# Altium schematic symbol library Kilian_UCC_Library.SchLib: 202 symbols (part 2 of 2)
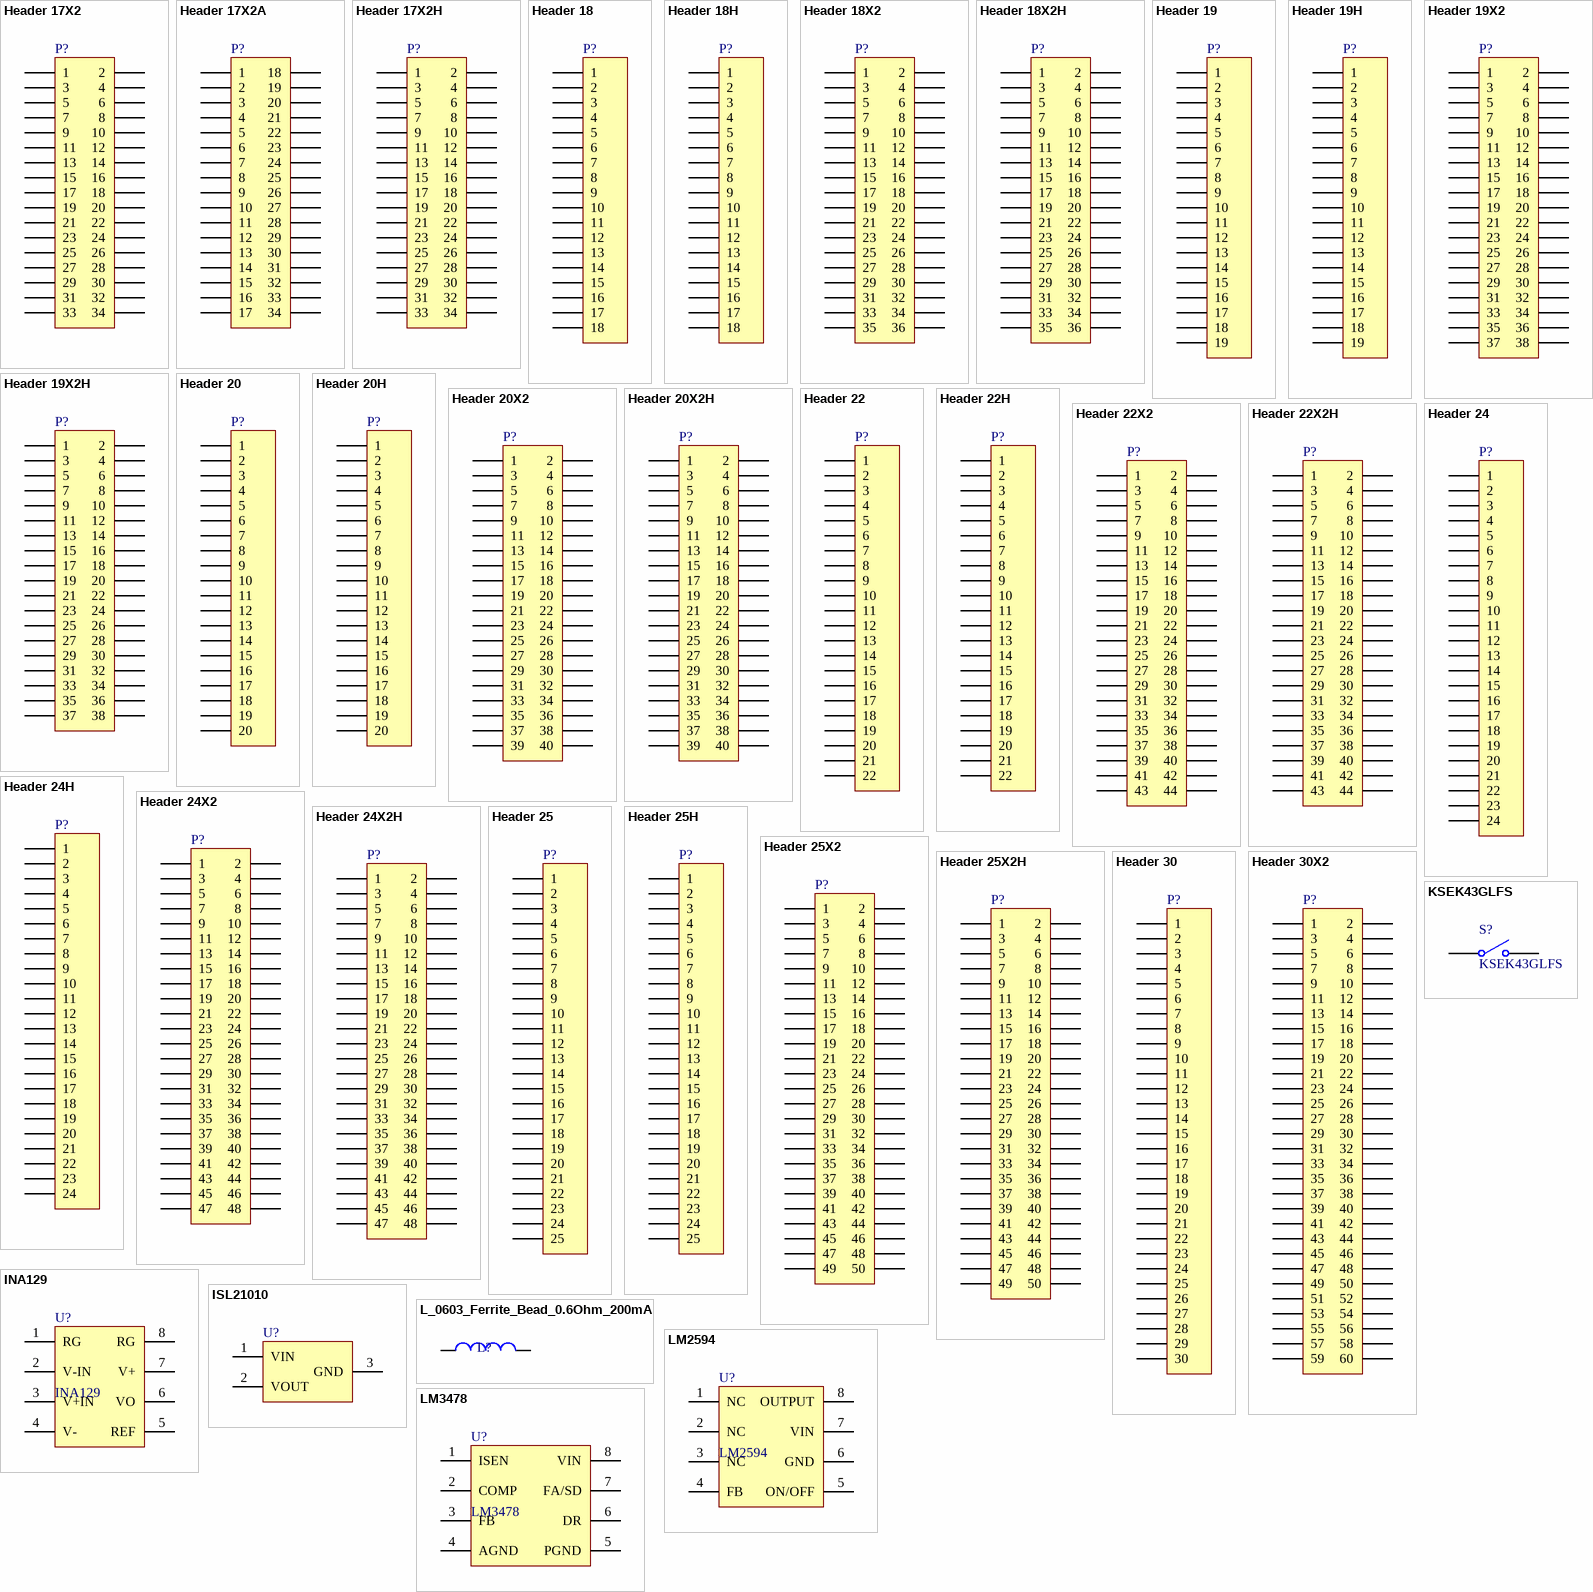
[diagram p6: symbols Header 17X2 to LM3478]

## Header 22X2H
designator P?
Header, 22-Pin, Dual row, Right Angle; LatestRevisionDate: 17-Jul-2002; LatestRevisionNote: Re-released for DXP Platform.; Publisher: Altium Limited
footprint HDR2X22H (Connector; Header; 22x2 Position; Right Angle)
signal-integrity model Connector
pins: 1, 2, 3, 4, 5, 6, 7, 8, 9, 10, 11, 12, 13, 14, 15, 16, 17, 18, 19, 20, 21, 22, 23, 24, 25, 26, 27, 28, 29, 30, 31, 32, 33, 34, 35, 36, 37, 38, 39, 40, 41, 42, 43, 44

## Header 24
designator P?
Header, 24-Pin; LatestRevisionDate: 17-Jul-2002; LatestRevisionNote: Re-released for DXP Platform.; Publisher: Altium Limited
footprint HDR1X24 (Connector; Header; 24 Position)
signal-integrity model Connector
pins: 1, 2, 3, 4, 5, 6, 7, 8, 9, 10, 11, 12, 13, 14, 15, 16, 17, 18, 19, 20, 21, 22, 23, 24

## Header 24H
designator P?
Header, 24-Pin, Right Angle; LatestRevisionDate: 17-Jul-2002; LatestRevisionNote: Re-released for DXP Platform.; Publisher: Altium Limited
footprint HDR1X24H (Connector; Header; 24 Position; Right Angle)
signal-integrity model Connector
pins: 1, 2, 3, 4, 5, 6, 7, 8, 9, 10, 11, 12, 13, 14, 15, 16, 17, 18, 19, 20, 21, 22, 23, 24

## Header 24X2
designator P?
Header, 24-Pin, Dual row; LatestRevisionDate: 17-Jul-2002; LatestRevisionNote: Re-released for DXP Platform.; Publisher: Altium Limited
footprint HDR2X24 (Connector; Header; 24x2 Position)
signal-integrity model Connector
pins: 1, 2, 3, 4, 5, 6, 7, 8, 9, 10, 11, 12, 13, 14, 15, 16, 17, 18, 19, 20, 21, 22, 23, 24, 25, 26, 27, 28, 29, 30, 31, 32, 33, 34, 35, 36, 37, 38, 39, 40, 41, 42, 43, 44, 45, 46, 47, 48

## Header 24X2H
designator P?
Header, 24-Pin, Dual row, Right Angle; LatestRevisionDate: 17-Jul-2002; LatestRevisionNote: Re-released for DXP Platform.; Publisher: Altium Limited
footprint HDR2X24H (Connector; Header; 24x2 Position; Right Angle)
signal-integrity model Connector
pins: 1, 2, 3, 4, 5, 6, 7, 8, 9, 10, 11, 12, 13, 14, 15, 16, 17, 18, 19, 20, 21, 22, 23, 24, 25, 26, 27, 28, 29, 30, 31, 32, 33, 34, 35, 36, 37, 38, 39, 40, 41, 42, 43, 44, 45, 46, 47, 48

## Header 25
designator P?
Header, 25-Pin; LatestRevisionDate: 17-Jul-2002; LatestRevisionNote: Re-released for DXP Platform.; Publisher: Altium Limited
footprint HDR1X25 (Connector; Header; 25 Position)
signal-integrity model Connector
pins: 1, 2, 3, 4, 5, 6, 7, 8, 9, 10, 11, 12, 13, 14, 15, 16, 17, 18, 19, 20, 21, 22, 23, 24, 25

## Header 25H
designator P?
Header, 25-Pin, Right Angle; LatestRevisionDate: 17-Jul-2002; LatestRevisionNote: Re-released for DXP Platform.; Publisher: Altium Limited
footprint HDR1X25H (Connector; Header; 25 Position; Right Angle)
signal-integrity model Connector
pins: 1, 2, 3, 4, 5, 6, 7, 8, 9, 10, 11, 12, 13, 14, 15, 16, 17, 18, 19, 20, 21, 22, 23, 24, 25

## Header 25X2
designator P?
Header, 25-Pin, Dual row; LatestRevisionDate: 17-Jul-2002; LatestRevisionNote: Re-released for DXP Platform.; Publisher: Altium Limited
footprint HDR2X25 (Connector; Header; 25x2 Position)
signal-integrity model Connector
pins: 1, 2, 3, 4, 5, 6, 7, 8, 9, 10, 11, 12, 13, 14, 15, 16, 17, 18, 19, 20, 21, 22, 23, 24, 25, 26, 27, 28, 29, 30, 31, 32, 33, 34, 35, 36, 37, 38, 39, 40, 41, 42, 43, 44, 45, 46, 47, 48, 49, 50

## Header 25X2H
designator P?
Header, 25-Pin, Dual row, Right Angle; LatestRevisionDate: 17-Jul-2002; LatestRevisionNote: Re-released for DXP Platform.; Publisher: Altium Limited
footprint HDR2X25H (Connector; Header; 25x2 Position; Right Angle)
signal-integrity model Connector
pins: 1, 2, 3, 4, 5, 6, 7, 8, 9, 10, 11, 12, 13, 14, 15, 16, 17, 18, 19, 20, 21, 22, 23, 24, 25, 26, 27, 28, 29, 30, 31, 32, 33, 34, 35, 36, 37, 38, 39, 40, 41, 42, 43, 44, 45, 46, 47, 48, 49, 50

## Header 30
designator P?
Header, 30-Pin; LatestRevisionDate: 17-Jul-2002; LatestRevisionNote: Re-released for DXP Platform.; Publisher: Altium Limited
footprint HDR1X30 (Connector; Header; 30 Position)
signal-integrity model Connector
pins: 1, 2, 3, 4, 5, 6, 7, 8, 9, 10, 11, 12, 13, 14, 15, 16, 17, 18, 19, 20, 21, 22, 23, 24, 25, 26, 27, 28, 29, 30

## Header 30X2
designator P?
Header, 30-Pin, Dual row; LatestRevisionDate: 17-Jul-2002; LatestRevisionNote: Re-released for DXP Platform.; Publisher: Altium Limited
footprint HDR2X30 (Connector; Header; 30x2 Position)
signal-integrity model Connector
pins: 1, 2, 3, 4, 5, 6, 7, 8, 9, 10, 11, 12, 13, 14, 15, 16, 17, 18, 19, 20, 21, 22, 23, 24, 25, 26, 27, 28, 29, 30, 31, 32, 33, 34, 35, 36, 37, 38, 39, 40, 41, 42, 43, 44, 45, 46, 47, 48, 49, 50, 51, 52, 53, 54, 55, 56, 57, 58, 59, 60

## INA129
designator U?
TEXAS INSTRUMENTS  INA129UAE4  Instrument Amplifier, 3 Amplifier, 125 µV, 4 V/µs, 1.3 MHz, ± 2.25V to ± 18V, SOIC; Unit Cost: 7.94; ComponentLinkURL1: http://ie.farnell.com/texas-instruments/ina129uae4/ic-amp-instrumentation-soic8-129/dp/1206897; Manufacturer Part Number: INA129UAE4; Supplier Part Number 1: 1206897; Supplier 1: Farnell; Supplier 2: *; Manufacturer: TEXAS INSTRUMENTS
footprint SO-8 (SOIC, 8-Leads, Body 4.9x3.9mm, Pitch 1.27mm, IPC Medium Density)
pins: 1 RG, 2 V-IN, 3 V+IN, 4 V-, 5 REF, 6 VO, 7 V+, 8 RG

## ISL21010
designator U?  (value not drawn)
INTERSIL  ISL21010CFH330Z-TK  Voltage Reference, Precision Micropower, Series - Fixed, ISL21010 Series, 3V, SOT-23-3; Unit Cost: 1.79; ComponentLinkURL1: http://ie.farnell.com/intersil/isl21010cfh330z-tk/voltage-ref-series-3v-sot-23-3/dp/2112003; Manufacturer Part Number: ISL21010CFH330Z-TK; Supplier Part Number 1: 2112003; Supplier 1: Farnell; Supplier 2: *; Manufacturer: INTERSIL
footprint SOT-23 (SOT-23; 3 Leads; Body 3.0 x 2.5 mm, inc. leads (LxW max), Alternate Lead Configuration)
pins: 1 VIN, 2 VOUT, 3 GND

## KSEK43GLFS
designator S?
Single-Pole, Single-Throw Switch; Published: 24-Mar-1999; LatestRevisionDate: 17-Jul-2002; LatestRevisionNote: Re-released for DXP Platform.; PackageReference: SPST-2; Publisher: Altium Limited; PackageDescription: Switch; 2 Leads
footprint KSEK43GLFS
pins: 1 COMMON, 2 NO

## L_0603_Ferrite_Bead_0.6Ohm_200mA
designator L?, comment Ferrite Bead  (value not drawn)
WURTH ELEKTRONIK  74279266  FERRITE, BEAD, 0603, 0.6OHM, 0.2A; Unit Cost: 0.193; Supplier 1: Farnell; Supplier Part Number 1: 1635693; ComponentLinkURL1: http://ie.farnell.com/wurth-elektronik/74279266/ferrite-bead-0603-0-6ohm-0-2a/dp/1635693; Manufacturer Part Number: 74279266; Value: Ferrite Bead; Supplier 2: *
footprint 0603 (Chip Inductor, Body 0.6x0.3mm, IPC High Density)
pins: 1, 2

## LM2594
designator U?
TEXAS INSTRUMENTS  LM2594M-3.3  Buck (Step Down) Switching Regulator, Fixed, 4.5V-40V In, 3.3V And 0.5A Out, SOIC-8; Unit Cost: 2.52; ComponentLinkURL1: http://ie.farnell.com/texas-instruments/lm2594m-3-3/switching-reg-0-5a-3-3v-smd-2594/dp/1215200; Manufacturer Part Number: LM2594M-3.3; Supplier 1: Farnell; Supplier 2: *; Manufacturer: TEXAS INSTRUMENTS; Value: 3.3V; Supplier Part Number 1: 1215200
footprint D008_M (8-Pin Small Outline Integrated Circuit 1.27 mm Pitch, IPC Low Density)
pins: 1 NC, 2 NC, 3 NC, 4 FB, 5 ON/OFF, 6 GND, 7 VIN, 8 OUTPUT

## LM3478
designator U?
LM3478x/-Q1 High-Efficiency Low-Side N-Channel Controller for Switching Regulator; Manufacturer: Texas Instruments; Manufacturer Part Number: LM3478MA/NOPB; Unit Cost: 2.61; Supplier 1: Farnell; Supplier Part Number 1: 2323702; ComponentLinkURL1: http://ie.farnell.com/texas-instruments/lm3478ma-nopb/pwm-controller-current-mode-soic/dp/2323702?selectedCategoryId=&exaMfpn=true&categoryId=&searchRef=SearchLookAhead&searchView=table&iscrfnonsku=false
footprint D008_M (8-Pin Small Outline Integrated Circuit 1.27 mm Pitch, IPC Low Density)
pins: 1 ISEN, 2 COMP, 3 FB, 4 AGND, 5 PGND, 6 DR, 7 FA/SD, 8 VIN

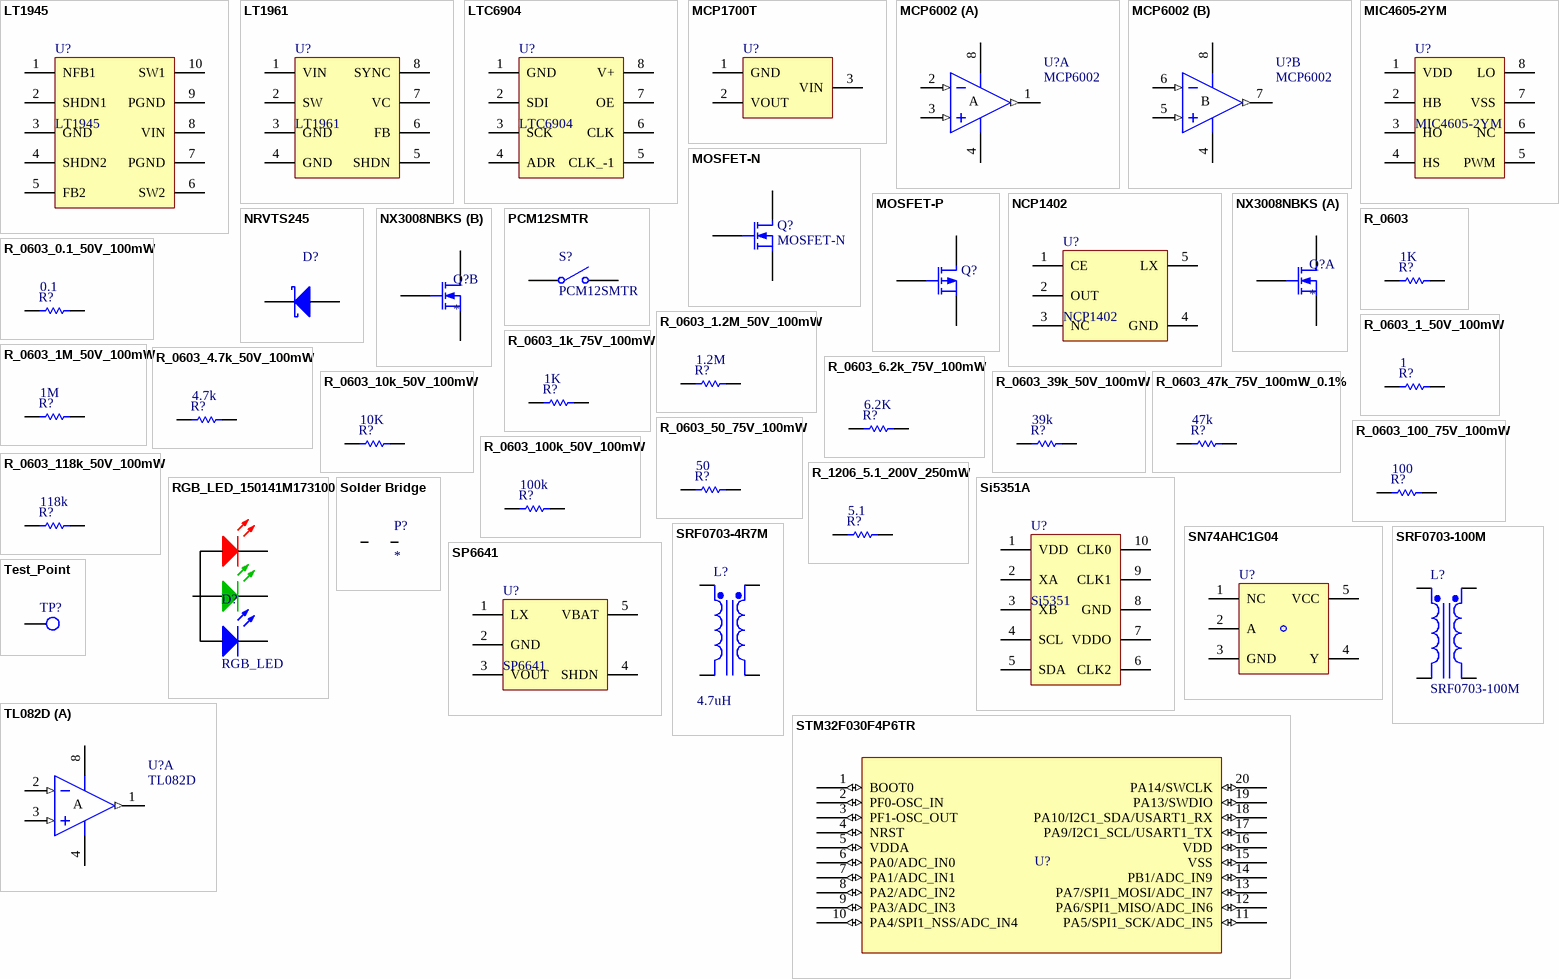
[diagram p4: symbols LT1945 to TL082D]

## LT1945
designator U?
Dual Rail DC DC - LINEAR TECHNOLOGY  LT1945EMS#PBF  IC, DC/DC CONV, SMD, MSOP10, 1945; Unit Cost: 4.07; ComponentLinkURL1: http://ie.farnell.com/linear-technology/lt1945ems-pbf/ic-dc-dc-conv-smd-msop10-1945/dp/1273495; Manufacturer Part Number: LT1945EMS#PBF; Supplier Part Number 1: 1273495; Supplier 1: Farnell; Supplier Part Number 2: *; Manufacturer: LINEAR TECHNOLOGY
footprint MS10 (Shrink Small Outline; 10 Leads; Body Width 3 mm; Pitch 0.5 mm)
pins: 1 NFB1, 2 SHDN1, 3 GND, 4 SHDN2, 5 FB2, 6 SW2, 7 PGND, 8 VIN, 9 PGND, 10 SW1

## LT1961
designator U?
1.5A, 1.25MHz Step-Up  Switching Regulator
simulation model BRIDGE (Spice Subcircuit)
footprint MSOP_8
pins: 1 VIN, 2 SW, 3 GND, 4 GND, 5 SHDN, 6 FB, 7 VC, 8 SYNC

## LTC6904
designator U?
LINEAR TECHNOLOGY  LTC6904CMS8#PBF  IC, OSCILLATOR, 1KHZ-68MHZ, 8MSOP; Unit Cost: 4; ComponentLinkURL1: http://ie.farnell.com/linear-technology/ltc6904cms8-pbf/ic-oscillator-1khz-68mhz-8msop/dp/1663750; Supplier 1: Farnell; Supplier Part Number 1: 1663750; Manufacturer: LINEAR TECHNOLOGY; Manufacturer Part Number: LTC6904CMS8#PBF
simulation model BRIDGE (Spice Subcircuit)
footprint MSOP_8
pins: 1 GND, 2 SDI, 3 SCK, 4 ADR, 5 CLK_-1, 6 CLK, 7 OE, 8 V+

## MCP1700T
designator U?  (value not drawn)
LDO Voltage Regulators 250mA Adj LDO 2%; Supplier 2: *
footprint SOT-23 (SOT-23; 3 Leads; Body 3.0 x 2.5 mm, inc. leads (LxW max), Alternate Lead Configuration)
pins: 1 GND, 2 VOUT, 3 VIN

## MCP6002
designator U?
MICROCHIP  MCP6002-I/SN  Operational Amplifier, Dual, AEC-Q100, 1 MHz, 2 Amplifier, 0.6 V/µs, 1.8V to 6V, SOIC, 8 Pins; Unit Cost: .414; Published: 16-Jan-2001; LatestRevisionDate: 13-Apr-2006; LatestRevisionNote: IPC-7351 Footprint Added.; DatasheetVersion: Feb-1999; PackageVersion: Jan-1998; PackageReference: D008; Publisher: Altium Limited; PackageDescription: 8-Pin Small Outline Integrated Circuit 1.27 mm Pitch; Code_IPC: SOIC127P600-8; ComponentLink1Description: Manufacturer Link; ComponentLink1URL: http://ie.farnell.com/microchip/mcp6002-i-sn/ic-op-amp-1-8v-1mhz-dual-soic8/dp/1292246; ComponentLink2Description: Datasheet; ComponentLink2URL: http://www-s.ti.com/sc/ds/tl082.pdf; Supplier 1: Farnell; Supplier Part Number 1: 1292246
footprint D008_M (SOIC, 8-Leads, Body 4.9x3.9mm, Pitch 1.27mm, IPC Low Density)
3D model D008 (8-Pin Small Outline Integrated Circuit 1.27 mm Pitch)
simulation model TL082 (SUBCKT)
pins on every part: 4 V- (power), 8 V+ (power)
part A pins: 1 OUT (out), 2 IN- (in), 3 IN+ (in)
part B pins: 5 IN+ (in), 6 IN- (in), 7 OUT (out)
part A text: A
part B text: B

## MIC4605-2YM
designator U?
Mosfet Driver; Manufacturer: MICROCHIP; Unit Cost: .702; Supplier 1: Farnell; Supplier Part Number 1: 2510169; Manufacturer Part Number: MIC4605-2YM; ComponentLinkURL1: http://ie.farnell.com/microchip/mic4605-2ym/driver-mosfet-5-5v-16v-soic-8/dp/2510169
simulation model BRIDGE (Spice Subcircuit)
footprint SO-8 - M (SOIC, 8-Leads, Body 4.9x3.9mm, Pitch 1.27mm, IPC Medium Density)
pins: 1 VDD, 2 HB, 3 HO, 4 HS, 5 PWM, 6 NC, 7 VSS, 8 LO

## MOSFET-N
designator Q?
N-Channel MOSFET; Published: 8-Jun-2000; LatestRevisionDate: 17-Jul-2002; LatestRevisionNote: Re-released for DXP Platform.; PackageVersion: 1995/1996; PackageReference: E3; Publisher: Altium Limited; PackageDescription: TO, Flat Index; 3 In-Line, Axial Leads; Body Dia. 4.6mm; Lead Dia. 0.5 mm (max)
footprint E3 (TO, Flat Index; 3 In-Line, Axial Leads; Body Dia. 4.6mm; Lead Dia. 0.5 mm (max))
simulation model NMOS (MOSFET-N)
pins: 1 D, 2 G, 3 S

## MOSFET-P
designator Q?
P-Channel MOSFET; Published: 8-Jun-2000; LatestRevisionDate: 17-Jul-2002; LatestRevisionNote: Re-released for DXP Platform.; PackageVersion: 1995/1996; PackageReference: E3; Publisher: Altium Limited; PackageDescription: TO, Flat Index; 3 In-Line, Axial Leads; Body Dia. 4.6mm; Lead Dia. 0.5 mm (max)
footprint E3 (TO, Flat Index; 3 In-Line, Axial Leads; Body Dia. 4.6mm; Lead Dia. 0.5 mm (max))
simulation model PMOS (MOSFET-P)
pins: 1 D, 2 G, 3 S

## NCP1402
designator U?
footprint SOT23-5
pins: 1 CE, 2 OUT, 3 NC, 4 GND, 5 LX

## NRVTS245
designator D?  (value not drawn)
ON SEMICONDUCTOR  NRVTS245ESFT1G  Schottky Rectifier, Single, 45 V, 2 A, SOD-123, 2 Pins, 650 mV; Unit Cost: 0.0894; Value: 650mV; ComponentLinkURL1: http://ie.farnell.com/on-semiconductor/nrvts245esft1g/diode-schottky-2a-45v-sod-123/dp/2473409?ost=2473409&selectedCategoryId=&categoryNameResp=All%2BCategories&searchView=table&iscrfnonsku=false; Manufacturer Part Number: NRVTS245ESFT1G; Supplier 1: Farnell; Supplier 2: *; Manufacturer: ON SEMICONDUCTOR; Supplier Part Number 1: 2473409
footprint SOD123
pins: 1, 2

## NX3008NBKS
designator Q?
footprint SOT363
part A pins: 1 S, 2 G, 6 D
part B pins: 3 D, 4 S, 5 G

## PCM12SMTR
designator S?
C & K COMPONENTS  PCM12SMTR  Slide Switch, SPDT, On-On, SMD, PCM Series, 300 mA; Published: 24-Mar-1999; LatestRevisionDate: 17-Jul-2002; LatestRevisionNote: Re-released for DXP Platform.; PackageReference: SPST-2; Publisher: Altium Limited; PackageDescription: Switch; 2 Leads; Supplier Part Number: 9575146
footprint PCM12SMTR
pins: 1 COMMON, 2 NO

## R_0603
designator R?  value 1K  (hidden comment: R_0603)
Resistor; Voltage Rating: *
simulation model RESISTOR (Resistor)
signal-integrity model Res
footprint 0603 (Chip Inductor, Body 0.6x0.3mm, IPC High Density)
pins: 1, 2

## R_0603_0.1_50V_100mW
designator R?  value 0.1  (hidden comment: R_0603_0.1_50V_100mW)
BOURNS  CRL0603-JW-R100ELF  SMD Chip Resistor, Thick Film, CRL Series, 0.1 ohm, 0603 [1608 Metric], 100 mW, ± 5%; Voltage Rating: 75V; Unit Cost: 0.0123; Supplier 1: Farnell; Supplier 2: Digikey; Supplier Part Number 1: 2328102; Supplier Part Number 2: *; ComponentLinkURL1: http://ie.farnell.com/bourns/crl0603-jw-r100elf/res-thick-film-0r1-5-0-1w-0603/dp/2328102; Manufacturer Part Number: CRL0603-JW-R100ELF; Manufacturer: BOURNS
simulation model RESISTOR (Resistor)
signal-integrity model Res
footprint 0603 (Chip Inductor, Body 0.6x0.3mm, IPC High Density)
pins: 1, 2

## R_0603_1.2M_50V_100mW
designator R?  value 1.2M  (hidden comment: R_0603_1.2M_50V_100mW)
Resistor; Manufacturer: PANASONIC ELECTRONIC COMPONENTS; Manufacturer Part Number: RC0603FR-071ML; Voltage Rating: 50V; Unit Cost: 0.0123; Tolerance: 1%; Supplier 1: Farnell; Supplier 2: Digikey; Supplier Part Number 1: 2059682; Supplier Part Number 2: *; ComponentLinkURL2: *; ComponentLinkURL1: http://ie.farnell.com/panasonic-electronic-components/erj3geyj125v/res-thick-film-1m2-5-0-1w-0603/dp/2059682
simulation model RESISTOR (Resistor)
signal-integrity model Res
footprint 0603 (Chip Inductor, Body 0.6x0.3mm, IPC High Density)
pins: 1, 2

## R_0603_1_50V_100mW
designator R?, comment 1
Resistor; Manufacturer Part Number: RC0603FR-071RL; Manufacturer: YAGEO; Voltage Rating: 50V; Unit Cost: 0.0136; Supplier 1: Farnell; Supplier 2: Digikey; Supplier Part Number 1: 9238123; Supplier Part Number 2: *; ComponentLinkURL1: http://ie.farnell.com/yageo-phycomp/rc0603fr-071rl/res-thick-film-1r-1-0-1w-0603/dp/9238123; Value: 1
simulation model RESISTOR (Resistor)
signal-integrity model Res
footprint 0603 (Chip Inductor, Body 0.6x0.3mm, IPC High Density)
pins: 1, 2

## R_0603_1k_75V_100mW
designator R?  value 1K  (hidden comment: R_0603_1k_75V_100mW)
Resistor; Manufacturer Part Number: ERJ3GEYJ102V; Manufacturer: PANASONIC ELECTRONIC COMPONENTS; Voltage Rating: 75V; Unit Cost: 0.0123; Supplier 1: Farnell; Supplier 2: Digikey; Supplier Part Number 1: 2059601; Supplier Part Number 2: *; ComponentLinkURL1: http://ie.farnell.com/panasonic-electronic-components/erj3geyj102v/res-thick-film-1k-5-0-1w-0603/dp/2059601
simulation model RESISTOR (Resistor)
signal-integrity model Res
footprint 0603 (Chip Inductor, Body 0.6x0.3mm, IPC High Density)
pins: 1, 2

## R_0603_1M_50V_100mW
designator R?  value 1M  (hidden comment: R_0603_1M_50V_100mW)
Resistor; Manufacturer: YAGEO; Manufacturer Part Number: RC0603FR-071ML; Voltage Rating: 50V; Unit Cost: 0.006; Tolerance: 1%; Supplier 1: Farnell; Supplier 2: Digikey; Supplier Part Number 1: 9238840; Supplier Part Number 2: *; ComponentLinkURL2: *; ComponentLinkURL1: http://ie.farnell.com/yageo-phycomp/rc0603fr-071ml/res-thick-film-1m-1-0-1w-0603/dp/9238840
simulation model RESISTOR (Resistor)
signal-integrity model Res
footprint 0603 (Chip Inductor, Body 0.6x0.3mm, IPC High Density)
pins: 1, 2

## R_0603_4.7k_50V_100mW
designator R?, comment 4.7k
YAGEO (PHYCOMP)  RC0603FR-074K7L.  SMD Chip Resistor, Thick Film, RC Series, 4.7 kohm, 50 V, 0603 [1608 Metric], 100 mW, ± 1%; Voltage Rating: 50V; Unit Cost: 0.0066; Supplier 1: Farnell; Supplier 2: Digikey; Supplier Part Number 1: 9238565; Supplier Part Number 2: *; ComponentLinkURL2: *; ComponentLinkURL1: http://ie.farnell.com/yageo-phycomp/rc0603fr-074k7l/res-thick-film-4k7-1-0-1w-0603/dp/9238565; Manufacturer: YAGEO (PHYCOMP); Manufacturer Part Number: RC0603FR-074K7L; Value: 4.7k
simulation model RESISTOR (Resistor)
signal-integrity model Res
footprint 0603 (Chip Inductor, Body 0.6x0.3mm, IPC High Density)
pins: 1, 2

## R_0603_6.2k_75V_100mW
designator R?  value 6.2K  (hidden comment: R_0603_6.2k_75V_100mW)
Resistor; Manufacturer Part Number: WR06X6201FTL; Manufacturer: WALSIN; Voltage Rating: 75V; Unit Cost: 0.0109; Supplier 1: Farnell; Supplier 2: Digikey; Supplier Part Number 1: 2502475; Supplier Part Number 2: *; ComponentLinkURL1: http://ie.farnell.com/walsin/wr06x6201ftl/resistor-thick-film-6k2-1-75v/dp/2502475
simulation model RESISTOR (Resistor)
signal-integrity model Res
footprint 0603 (Chip Inductor, Body 0.6x0.3mm, IPC High Density)
pins: 1, 2

## R_0603_10k_50V_100mW
designator R?  value 10K  (hidden comment: R_0603_10k_50V_100mW)
Resistor; Manufacturer: YAGEO; Manufacturer Part Number: RC0603FR-0710KL; Voltage Rating: 50V; Unit Cost: 0.006; Supplier 1: Farnell; Supplier 2: Digikey; Supplier Part Number 1: 9238603; Supplier Part Number 2: *; ComponentLinkURL2: *; ComponentLinkURL1: http://ie.farnell.com/yageo-phycomp/rc0603fr-0710kl/res-thick-film-10k-1-0-1w-0603/dp/9238603
simulation model RESISTOR (Resistor)
signal-integrity model Res
footprint 0603 (Chip Inductor, Body 0.6x0.3mm, IPC High Density)
pins: 1, 2

## R_0603_39k_50V_100mW
designator R?, comment 39k
YAGEO (PHYCOMP)  RC0603FR-074K7L.  YAGEO (PHYCOMP)  RC0603JR-0739KL  SMD Chip Resistor, Thick Film, RC Series, 39 kohm, 50 V, 0603 [1608 Metric], 100 mW, ± 5%; Voltage Rating: 50V; Unit Cost: 0.0066; Supplier 1: Farnell; Supplier 2: Digikey; Supplier Part Number 1: 9233571; Supplier Part Number 2: *; ComponentLinkURL2: *; ComponentLinkURL1: http://ie.farnell.com/yageo-phycomp/rc0603fr-074k7l/res-thick-film-4k7-1-0-1w-0603/dp/9238565; Manufacturer: YAGEO (PHYCOMP); Manufacturer Part Number: RC0603JR-0739KL; Value: 39k
simulation model RESISTOR (Resistor)
signal-integrity model Res
footprint 0603 (Chip Inductor, Body 0.6x0.3mm, IPC High Density)
pins: 1, 2

## R_0603_47k_75V_100mW_0.1%
designator R?, comment 47k
Resistor; Manufacturer: PANASONIC ELECTRONIC COMPONENTS; Manufacturer Part Number: ERA3AEB473V; Voltage Rating: 75V; Unit Cost: 0.225; Supplier 1: Farnell; Supplier 2: Digikey; Supplier Part Number 1: 1577628; Supplier Part Number 2: *; ComponentLinkURL2: *; ComponentLinkURL1: http://ie.farnell.com/panasonic-electronic-components/era3aeb473v/res-thin-film-47k-0-1-0-1w-0603/dp/1577628; Value: 47k
simulation model RESISTOR (Resistor)
signal-integrity model Res
footprint 0603 (Chip Inductor, Body 0.6x0.3mm, IPC High Density)
pins: 1, 2

## R_0603_50_75V_100mW
designator R?, comment 50
Resistor; Manufacturer Part Number: CRCW060350R0FKEA; Manufacturer: VISHAY; Voltage Rating: 50V; Unit Cost: 0.02; Supplier 1: Farnell; Supplier 2: Digikey; Supplier Part Number 1: 2112878; Supplier Part Number 2: *; ComponentLinkURL1: http://ie.farnell.com/vishay/crcw060350r0fkea/res-thick-film-50r-1-0-1w-0603/dp/2112878; Value: 50
simulation model RESISTOR (Resistor)
signal-integrity model Res
footprint 0603 (Chip Inductor, Body 0.6x0.3mm, IPC High Density)
pins: 1, 2

## R_0603_100_75V_100mW
designator R?  value 100  (hidden comment: R_0603_100_75V_100mW)
Resistor; Manufacturer Part Number: WR06X1000FTL; Manufacturer: WALSIN; Voltage Rating: 75V; Unit Cost: 0.0112; Supplier 1: Farnell; Supplier 2: Digikey; Supplier Part Number 1: 2059601; Supplier Part Number 2: *; ComponentLinkURL1: http://ie.farnell.com/walsin/wr06x1000ftl/res-thick-film-100r-1-75v-0603/dp/2502395
simulation model RESISTOR (Resistor)
signal-integrity model Res
footprint 0603 (Chip Inductor, Body 0.6x0.3mm, IPC High Density)
pins: 1, 2

## R_0603_100k_50V_100mW
designator R?  value 100k  (hidden comment: R_0603_100k_50V_100mW)
Resistor; Manufacturer: YAGEO; Manufacturer Part Number: RC0603FR-13100KL; Voltage Rating: 50V; Unit Cost: 0.0107; Tolerance: 1%; Supplier 1: Farnell; Supplier 2: Digikey; Supplier Part Number 1: 2309107; Supplier Part Number 2: *; ComponentLinkURL2: *; ComponentLinkURL1: http://ie.farnell.com/yageo/rc0603fr-13100kl/res-thick-film-100k-1-0-1w-0603/dp/2309107
simulation model RESISTOR (Resistor)
signal-integrity model Res
footprint 0603 (Chip Inductor, Body 0.6x0.3mm, IPC High Density)
pins: 1, 2

## R_0603_118k_50V_100mW
designator R?  value 118k  (hidden comment: R_0603_118k_50V_100mW)
Resistor; Manufacturer: TE CONNECTIVITY; Manufacturer Part Number: CPF0603F118KC1; Voltage Rating: 50V; Unit Cost: 0.09; Tolerance: 1%; Supplier 1: Farnell; Supplier 2: Digikey; Supplier Part Number 1: 1527698; Supplier Part Number 2: *; ComponentLinkURL2: *; ComponentLinkURL1: http://ie.farnell.com/te-connectivity-neohm/cpf0603f118kc1/res-thin-film-118k-1-0-063w-0603/dp/1527698
simulation model RESISTOR (Resistor)
signal-integrity model Res
footprint 0603 (Chip Inductor, Body 0.6x0.3mm, IPC High Density)
pins: 1, 2

## R_1206_5.1_200V_250mW
designator R?  value 5.1  (hidden comment: R_1206_5.1_200V_250mW)
WALSIN  WR12W5R10FTL  SMD Chip Resistor, WR12 Series, 5.1 ohm, 200 V, 1206 [3216 Metric], 250 mW, ± 1%; Voltage Rating: 200V; Unit Cost: 0.0418; Supplier 1: Farnell; Supplier 2: Digikey; Supplier Part Number 1: 2502654; Supplier Part Number 2: *; ComponentLinkURL2: *; ComponentLinkURL1: http://ie.farnell.com/walsin/wr12w5r10ftl/res-thick-film-5r1-1-200v-1206/dp/2502654; Manufacturer: WALSIN; Manufacturer Part Number: WR12W5R10FTL; Tolerance: 1%
simulation model RESISTOR (Resistor)
signal-integrity model Res
footprint C1206 (Chip Capacitor, Body 3.2x1.6mm, IPC High Density)
pins: 1, 2

## RGB_LED_150141M173100
designator D?, comment RGB_LED
RGB_LED_150141M173100; Published: 8-Jun-2000; LatestRevisionDate: 08-Jul-2005; LatestRevisionNote: Mech Layer 1 removed.; PackageReference: LED-0; Publisher: Altium Limited; PackageDescription: LED; 2 Leads
simulation model LED0 (Diode)
footprint RGB_LED_150141M173100 (WURTH ELEKTRONIK  150141M173100  LED, RGB, Red, Green, Blue, SMD, 120 °, Round, R 30mA, G 30mA, B 30mA)
pins: 1, 2, 3, 4

## Si5351A
designator U?, comment Si5351
Waveform Generator; Manufacturer: Silicon Labs; Manufacturer Part Number: Si5351A-B02075-GT; Unit Cost: 1.04; Supplier 1: Mouser; Supplier Part Number 1: 634-SI5351A-B02075GT; Component:LinkURL1: http://www.mouser.ie/ProductDetail/Silicon-Labs/Si5351A-B02075-GT/?qs=sGAEpiMZZMvo8iywG0hSDcfSeZc2GQYNVu7VD318qLM%3d
simulation model BRIDGE (Spice Subcircuit)
footprint MSOP_10
pins: 1 VDD, 2 XA, 3 XB, 4 SCL, 5 SDA, 6 CLK2, 7 VDDO, 8 GND, 9 CLK1, 10 CLK0

## SN74AHC1G04
designator U?
TEXAS INSTRUMENTS  SN74AHC1G04QDBVRQ1  Inverter Gate, ACH Family, 1 Input, 1 Gate, 2V to 5.5V, SOT-23-5; Unit Cost: 0.255; Supplier 1: Farnell; Supplier Part Number 1: 2499872; Manufacturer: TEXAS INSTRUMENTS; Manufacturer Part Number: SN74AHC1G04QDBVRQ1; Value: *; ComponentLinkURL1: http://ie.farnell.com/texas-instruments/sn74ahc1g04qdbvrq1/inverter-single-sot-23-5/dp/2499872
simulation model BRIDGE (Spice Subcircuit)
footprint SC-70
pins: 1 NC, 2 A, 3 GND, 4 Y, 5 VCC

## Solder Bridge
designator P?
Solder Bridge
footprint Solder Bridge
pins: 1, 2

## SP6641
designator U?
footprint SOT23-5
pins: 1 LX, 2 GND, 3 VOUT, 4 SHDN, 5 VBAT

## SRF0703-4R7M
designator L?  value 4.7uH  (hidden comment: SRF0703-4R7M)
BOURNS  SRF0703-4R7M  INDUCTOR, POWER, DUAL, 4.7UH PARA.; Unit Cost: 0.837; Supplier 1: Farnell; Supplier Part Number 1: 1852815; Manufacturer: BOURNS; Manufacturer Part Number: SRF0703-4R7M; ComponentLinkURL1: http://ie.farnell.com/bourns/srf0703-4r7m/inductor-power-dual-4-7uh-para/dp/1852815
simulation model IDEALTRANS (Spice Subcircuit)
footprint SRF0703-100M (SRF0703 Series - Dual-Winding Shielded Power Inductors)
pins: 1 Pri+, 2 Sec+, 3 Pri-, 4 Sec-

## SRF0703-100M
designator L?
Published: 8-Jun-2000; LatestRevisionDate: 17-Jul-2002; LatestRevisionNote: Re-released for DXP Platform.; PackageReference: TRF_4; Publisher: Altium Limited; PackageDescription: Transformer; 4 Leads
simulation model IDEALTRANS (Spice Subcircuit)
footprint SRF0703-100M (SRF0703 Series - Dual-Winding Shielded Power Inductors)
pins: 1 Pri+, 2 Sec+, 3 Pri-, 4 Sec-

## STM32F030F4P6TR
designator U?
STMICROELECTRONICS  STM32F030F4P6TR  32 Bit Microcontroller, Value Line, ARM Cortex-M0, 48 MHz, 16 KB, 4 KB, 20 Pins, TSSOP; Unit Cost: 1.1; ComponentLinkURL1: http://ie.farnell.com/stmicroelectronics/stm32f030f4p6tr/mcu-32bit-cortex-m0-48mhz-tssop/dp/2432084; Supplier 1: Farnell; Supplier Part Number 1: 2432084; Manufacturer: ST MICROELECTRONICS; Manufacturer Part Number: STM32F030F4P6TR
footprint TSSOP20 (Shrink Small Outline; 20 Leads; Body Width 4.4 mm; Pitch 0.65 mm)
pins: 1 BOOT0 (io), 2 PF0-OSC_IN (io), 3 PF1-OSC_OUT (io), 4 NRST (io), 5 VDDA (io), 6 PA0/ADC_IN0 (io), 7 PA1/ADC_IN1 (io), 8 PA2/ADC_IN2 (io), 9 PA3/ADC_IN3 (io), 10 PA4/SPI1_NSS/ADC_IN4 (io), 11 PA5/SPI1_SCK/ADC_IN5 (io), 12 PA6/SPI1_MISO/ADC_IN6 (io), 13 PA7/SPI1_MOSI/ADC_IN7 (io), 14 PB1/ADC_IN9 (io), 15 VSS (io), 16 VDD (io), 17 PA9/I2C1_SCL/USART1_TX (io), 18 PA10/I2C1_SDA/USART1_RX (io), 19 PA13/SWDIO (io), 20 PA14/SWCLK (io)

## Test_Point
designator TP?, comment Test Point  (value not drawn)
HARWIN  S1751-46R  PCB Test Point, S1751 Series, Surface Mount, Copper Alloy, Tin Plated Contacts; Unit Cost: 0.129; ComponentLnkURL1: http://ie.farnell.com/harwin/s1751-46r/test-point-pcb-smt/dp/2293786?ost=2293786&selectedCategoryId=&categoryNameResp=All%2BCategories&searchView=table&iscrfnonsku=false; Manufacturer: HARWIN; Manufacturer Part Number: S1751-46R; Supplier 1: Farnell; Supplier Part Number 1: 2293786; Value: *
footprint Test_Point (Harwin Test Point)
pins: 1 TP

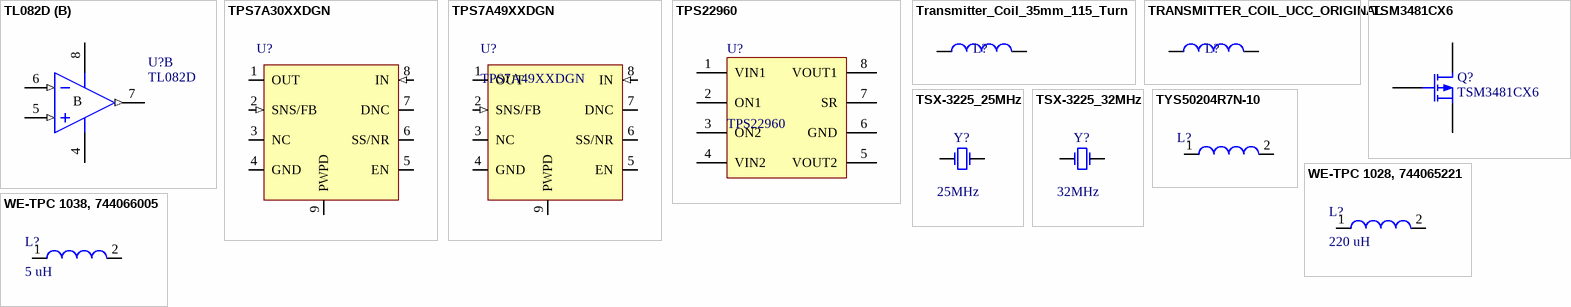
[diagram p5: symbols TL082D to WE-TPC 1038, 744066005]

## TL082D
designator U?
STMICROELECTRONICS  TL082IDT  Operational Amplifier, Dual, 4 MHz, 2 Amplifier, 16 V/µs, 6V to 36V, SOIC, 8 Pins; Unit Cost: 0.158; Published: 16-Jan-2001; LatestRevisionDate: 13-Apr-2006; LatestRevisionNote: IPC-7351 Footprint Added.; DatasheetVersion: Feb-1999; PackageVersion: Jan-1998; PackageReference: D008; Publisher: Altium Limited; PackageDescription: 8-Pin Small Outline Integrated Circuit 1.27 mm Pitch; Code_IPC: SOIC127P600-8; ComponentLink1Description: Manufacturer Link; ComponentLink1URL: http://ie.farnell.com/stmicroelectronics/tl082idt/op-amp-dual-4mhz-l-bias-8soic/dp/1750155; ComponentLink2Description: Datasheet; ComponentLink2URL: http://www-s.ti.com/sc/ds/tl082.pdf; Supplier 1: Farnell; Supplier Part Number 1: 1750155; Manufacturer: STMICROELECTRONICS; Manufacturer Part Number: TL082IDT
footprint D008_M (SOIC, 8-Leads, Body 4.9x3.9mm, Pitch 1.27mm, IPC Low Density)
3D model D008 (8-Pin Small Outline Integrated Circuit 1.27 mm Pitch)
simulation model TL082 (SUBCKT)
pins on every part: 4 V- (power), 8 V+ (power)
part A pins: 1 OUT (out), 2 IN- (in), 3 IN+ (in)
part B pins: 5 IN+ (in), 6 IN- (in), 7 OUT (out)
part A text: A
part B text: B

## TPS7A30XXDGN
designator U?  (value not drawn)
IC, -3V to -36V, -200mA, Ultralow Noise, High-PSRR LDO Negative Linear Regulator; Alternate Manufacturer: None; Manufacturer: TI; PartNumber: TPS7A3001DGNT; Area: 35250; Value: TPS7A3001DGNT; Unit Cost: 3.95; Alternate PartNumber: *; Altium Migration: *; ComponentHeight: 0.047; ComponentLink1Description: AEO Datasheet Link; ComponentLink1URL: http://ie.farnell.com/texas-instruments/tps7a3001dgnt/ic-ldo-neg-adj-200ma-8msop/dp/1855138; PackageReference: MSOP-8; SymbolVersion: 10/28/2009 14:24; Supplier 1: Farnell; Supplier Part Number 1: 1855138; Value: *
footprint DGN-8 (DGN PowerPAD)
pins: 1 OUT (power), 2 SNS/FB (in), 3 NC, 4 GND (power), 5 EN, 6 SS/NR, 7 DNC, 8 IN (in), 9 PWPD

## TPS7A49XXDGN
designator U?
IC, 3V to 36V, 150mA, Ultralow Noise, High-PSRR LDO Positive Linear Regulator; Alternate Manufacturer: None; Manufacturer: TI; PartNumber: TPS7A4901DGNT; Area: 35250; Value: TPS7A4901DGNT; Unit Cost: 2.64; Alternate PartNumber: *; Altium Migration: *; ComponentHeight: 0.047; ComponentLink1Description: AEO Datasheet Link; ComponentLink1URL: http://ie.farnell.com/texas-instruments/tps7a4901dgnt/ic-ldo-adj-150ma-8msop/dp/1841881; PackageReference: MSOP-8; SymbolVersion: 10/28/2009 14:24; Supplier 1: Farnell; Supplier Part Number 1: 1841881
footprint DGN-8 (DGN PowerPAD)
pins: 1 OUT (power), 2 SNS/FB (in), 3 NC, 4 GND (power), 5 EN, 6 SS/NR, 7 DNC, 8 IN (in), 9 PWPD

## TPS22960
designator U?
TEXAS INSTRUMENTS  TPS22960DCNR  Power Load Switch, Controlled Turn On, High Side, Active High, 2 Outputs, 5.5V, 0.5A, SOT-23-8; Unit Cost: .394; ComponentLinkURL1: http://ie.farnell.com/texas-instruments/tps22960dcnr/ic-power-switch-1-62v-in-8sot23/dp/1735581; Manufacturer Part Number: TPS22960DCNR; Supplier Part Number 1: 1735581; Supplier 1: Farnell; Supplier Part Number 2: *; Manufacturer: Texas Instruments
footprint SOT8
pins: 1 VIN1, 2 ON1, 3 ON2, 4 VIN2, 5 VOUT2, 6 GND, 7 SR, 8 VOUT1

## Transmitter_Coil_35mm_115_Turn
designator L?
Transmitter_Coil_35mm_115_Turn
footprint Transmitter_Coil_35mm_115_Turn
pins: 1, 2

## TRANSMITTER_COIL_UCC_ORIGINAL
designator L?
TRANSMITTER_COIL_UCC_ORIGINAL
footprint TRANSMITTER_COIL_UCC_ORIGINAL (Original 70mm coil, 0.5mm trace width, 0.25mm separation)
pins: 1, 2

## TSM3481CX6  
designator Q?, comment TSM3481CX6
TAIWAN SEMICONDUCTOR  TSM3481CX6  MOSFET Transistor, P Channel, -5.3 A, -30 V, 0.038 ohm, -10 V, -1 V; Unit Cost: 0.2; ComponentLinkURL1: http://ie.farnell.com/taiwan-semiconductor/tsm3481cx6/mosfet-p-ch-30v-5-3a-sot26/dp/1864596; Manufacturer Part Number: TSM3481CX6; Manufacturer: TAIWAN SEMICONDUCTOR; Supplier 1: Farnell; Supplier 2: *; Supplier Part Number 1: 1864596
simulation model PMOS (MOSFET-P)
footprint SOT-26; pin to pad 1>1+2+5+6 2>3 3>4
pins: 1 D, 2 G, 3 S

## TSX-3225_25MHz
designator Y?  value 25MHz  (hidden comment: TSX-3225_25MHz)
EPSON  X1E0000210132 TSX-3225 25 MHZ 9.0PF  CRYSTAL, TSX-3225, 25 MHZ, 9 PF; Unit Cost: 0.74; ComponentLinkURL1: http://ie.farnell.com/epson/x1e0000210132-tsx-3225-25-mhz-9-0pf/crystal-tsx-3225-25-mhz-9-pf/dp/1712843; Supplier 1: Farnell; Supplier Part Number 1: 1712843; Manufacturer: EPSON; Manufacturer Part Number: X1E0000210132 TSX-3225 25 MHZ 9.0PF
simulation model XTAL (Spice Subcircuit)
footprint TSX-3225 (MHz RANGE CRYSTAL UNIT  MINIATURE SIZE LOW PROFILE SMD)
pins: 1 OSC1, 3 OSC2

## TSX-3225_32MHz
designator Y?  value 32MHz  (hidden comment: TSX-3225_32MHz)
EPSON  X1E0000210162 TSX-3225 32 MHZ 9.0PF  CRYSTAL, TSX-3225, 32 MHZ, 9 PF; Unit Cost: 0.74; ComponentLinkURL1: http://ie.farnell.com/epson/x1e0000210162-tsx-3225-32-mhz-9-0pf/crystal-tsx-3225-32-mhz-9-pf/dp/1712845; Supplier 1: Farnell; Supplier Part Number 1: 1712845; Manufacturer: EPSON; Manufacturer Part Number: X1E0000210162
simulation model XTAL (Spice Subcircuit)
footprint TSX-3225 (MHz RANGE CRYSTAL UNIT  MINIATURE SIZE LOW PROFILE SMD)
pins: 1 OSC1, 3 OSC2

## TYS50204R7N-10
designator L?
LAIRD TECHNOLOGIES  TYS50204R7N-10  Surface Mount Power Inductor, TYS Series, 4.7 µH, ± 30%, Shielded, 0.057 ohm, 2.2 A; Manufacturer: Wurth Elektronik; L: 4.7u; IR: 4.9 A; Isat: 5.5 A; Rdc typ.: 57 mOhm; Rdc max.: 22 mOhm; Frequence: 30 MHz; Unit Cost: .849; ComponentLink1Description: Manufacturer; ComponentLink1URL: http://ie.farnell.com/laird-technologies/tys50204r7n-10/inductor-4-7-h-smd/dp/2292526; Created by: Baojun Chen; Created Date: April 2016; ComponentLink2Description: Datasheet; ComponentLink2URL: http://katalog.we-online.com/pbs/datasheet/744066005.pdf; Maunfacturer Part Number: TYS50204R7N-10; Supplier 1: Farnell; Supplier Part Number 1: 2292526
footprint TYS5020220M-10 (SMD Shield Tiny Power Inductor, body  5*5*2mm)
pins: 1, 2

## WE-TPC 1028, 744065221
designator L?, comment 220 uH
WE-TPC SMD Shielded Tiny Power Inductor, Size 1028, 220 uH; Manufacturer: Wurth Elektronik; PartNo.: 744065221; IR: 0.5 A; Isat: 0.55 A; Rdc typ.: 750 mOhm; Rdc max.: 1000 mOhm; Frequence: 4 MHz; Unit Cost: 1.71; ComponentLink1Description: Manufacturer; ComponentLink1URL: http://ie.farnell.com/wurth-elektronik/744065221/inductor-power-220uh-30-10-3x10/dp/2211511; Created by: Baojun Chen; Created Date: April 2016; ComponentLink2Description: Datasheet; ComponentLink2URL: http://katalog.we-online.com/pbs/datasheet/744065221.pdf; L: 220 uH; Supplier 1: Farnell; Supplier Part Number 1: 2211511; Manufacturer Part Number: 744065221
footprint WE-TPC_1028
pins: 1, 2

## WE-TPC 1038, 744066005
designator L?, comment 5 uH
WE-TPC SMD Shielded Tiny Power Inductor, Size 1038, 5 uH; Manufacturer: Wurth Elektronik; Manufacturer Part Number: 744066005; IR: 4.9 A; Isat: 5.5 A; Rdc typ.: 16.5 mOhm; Rdc max.: 22 mOhm; Frequence: 30 MHz; Unit Cost: 1.84; ComponentLink1Description: Manufacturer; ComponentLink1URL: http://ie.farnell.com/wurth-elektronik/744066005/choke-smd-5uh/dp/1635892; Created by: Baojun Chen; Created Date: April 2016; ComponentLink2Description: Datasheet; ComponentLink2URL: http://katalog.we-online.com/pbs/datasheet/744066005.pdf; L: 5 uH; Supplier Part Number 1: 1635892; Supplier 1: Farnell
footprint WE-TPC_1038
pins: 1, 2